# Altium schematic symbol library DMG1012T.SchLib: 1 symbol
Pins are listed as number, name and electrical type; pins without a type are passive.

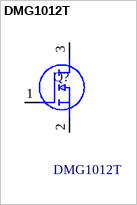
[diagram p0: symbol DMG1012T]

## DMG1012T
designator Q?
MOSFETs; Manufacturer_Name: Diodes Incorporated; Geometry.Height: 0.9mm; Manufacturer_Part_Number: DMG1012T; Mouser Part Number: N/A; Mouser Price/Stock: https://www.mouser.co.uk/ProductDetail/Diodes-Incorporated/DMG1012T?qs=Wj%2FVkw3K%252BMD5naxckZUW%2FA%3D%3D; Arrow Part Number: *; Arrow Price/Stock: *; Datasheet Link: https://www.diodes.com/datasheet/download/DMG1012T.pdf
footprint SOT50P160X90-3N
pins: 1 G, 2 S, 3 D